# Altium schematic symbol library HMSOFT.SCHLIB: 2 symbols
Pins are listed as number, name and electrical type; pins without a type are passive.

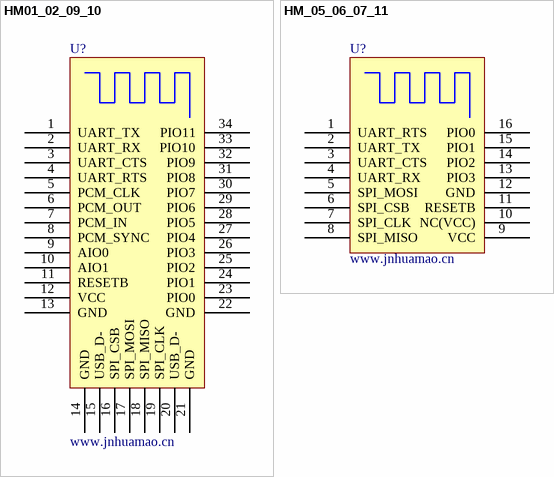
[diagram p0: symbols HM01_02_09_10 to HM_05_06_07_11]

## HM01_02_09_10
designator U?, comment www.jnhuamao.cn
HM bluetooth module HM-01,HM-02,HM-09,HM-10
pins: 1 UART_TX, 2 UART_RX, 3 UART_CTS, 4 UART_RTS, 5 PCM_CLK, 6 PCM_OUT, 7 PCM_IN, 8 PCM_SYNC, 9 AIO0, 10 AIO1, 11 RESETB, 12 VCC, 13 GND, 14 GND, 15 USB_D-, 16 SPI_CSB, 17 SPI_MOSI, 18 SPI_MISO, 19 SPI_CLK, 20 USB_D-, 21 GND, 22 GND, 23 PIO0, 24 PIO1, 25 PIO2, 26 PIO3, 27 PIO4, 28 PIO5, 29 PIO6, 30 PIO7, 31 PIO8, 32 PIO9, 33 PIO10, 34 PIO11

## HM_05_06_07_11
designator U?, comment www.jnhuamao.cn
HM bluetooth module HM-05,HM-06,HM-07, HM-11
footprint HM_05_06_07_11
pins: 1 UART_RTS, 2 UART_TX, 3 UART_CTS, 4 UART_RX, 5 SPI_MOSI, 6 SPI_CSB, 7 SPI_CLK, 8 SPI_MISO, 9 VCC, 10 NC(VCC), 11 RESETB, 12 GND, 13 PIO3, 14 PIO2, 15 PIO1, 16 PIO0